# Altium schematic symbol library 5040500891.SchLib: 1 symbol
Pins are listed as number, name and electrical type; pins without a type are passive.

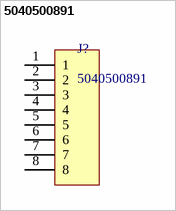
[diagram p0: symbol 5040500891]

## 5040500891
designator J?
1.50mm Pitch, Pico-Lock PCB Header, Single Row, Right Angle, Surface Mount, Gold (Au) Plating, Positive Lock, 8 Circuits; Потребление, Вт: 0; Наименование: 5040500891; Назначение: 1.50mm Pitch, Pico-Lock PCB Header, Single Row, Right Angle, Surface Mount, Gold (Au) Plating, Positive Lock, 8 Circuits
footprint 5040500891
pins: 1, 2, 3, 4, 5, 6, 7, 8